# EAGLE library part CD4051BCM (library Fairchild_By_element14_Batch_1)
Analog Multiplexer/Demultiplexer
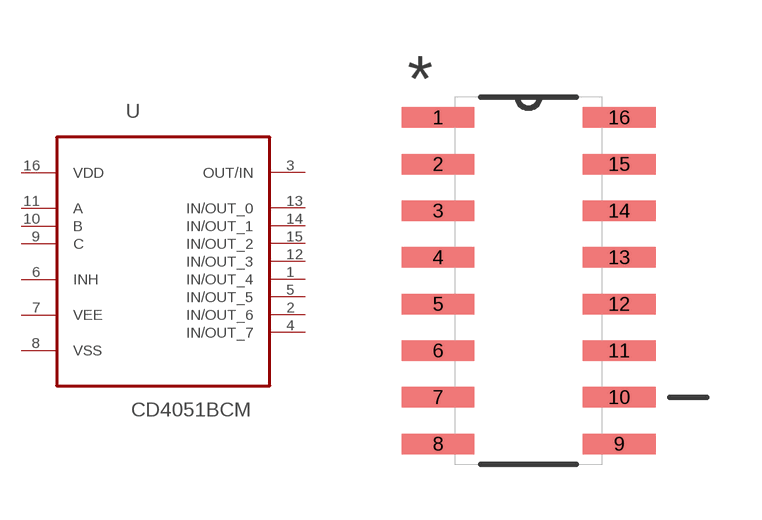
[diagram p160: symbol with the pads of SOIC127P600X175-16N; footprint SOIC127P600X175-16N]

Designator prefix U

## CD4051BCM (MPN: CD4051BCM; OC_FARNELL: 1014062; OC_NEWARK: 78K5872; PACKAGE: SOIC-16; SUPPLIER: FAIRCHILD SEMICONDUCTOR)  [SOIC127P600X175-16N]
1  IN/OUT_4
2  IN/OUT_6
3  OUT/IN
4  IN/OUT_7
5  IN/OUT_5
6  INH  in
7  VEE  in
8  VSS  pas
9  C  in
10  B  in
11  A  in
12  IN/OUT_3
13  IN/OUT_0
14  IN/OUT_1
15  IN/OUT_2
16  VDD  pwr

## Footprint SOIC127P600X175-16N (pad centres in mm)
smd 1.981 x 0.559: 1 -2.464,4.445; 2 -2.464,3.175; 3 -2.464,1.905; 4 -2.464,0.635; 5 -2.464,-0.635; 6 -2.464,-1.905; 7 -2.464,-3.175; 8 -2.464,-4.445; 9 2.464,-4.445; 10 2.464,-3.175; 11 2.464,-1.905; 12 2.464,-0.635; 13 2.464,0.635; 14 2.464,1.905; 15 2.464,3.175; 16 2.464,4.445